# Altium schematic symbol library TEFT4300.SchLib: 1 symbol
Pins are listed as number, name and electrical type; pins without a type are passive.

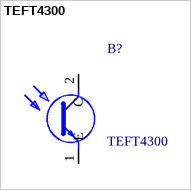
[diagram p0: symbol TEFT4300]

## TEFT4300
designator B?
Vishay TEFT4300 60  Infrared Phototransistor, Through-hole 3mm Package; Geometry.Height: 6.1mm; Manufacturer_Name: Vishay; Manufacturer_Part_Number: TEFT4300; Mouser Part Number: 782-TEFT4300; Mouser Price/Stock: https://www.mouser.co.uk/ProductDetail/Vishay-Semiconductors/TEFT4300?qs=HsFHTXumnCRbcrt8oPFPMA%3D%3D; Arrow Part Number: TEFT4300; Arrow Price/Stock: https://www.arrow.com/en/products/teft4300/vishay?region=nac; Datasheet Link: https://datasheet.datasheetarchive.com/originals/distributors/Datasheets-310/86913.pdf
footprint TEFT4300
pins: 1 E, 2 C